# Altium footprint library RSX_Test_Points.PcbLib: 3 footprints
Each footprint in its own frame and in the unit in brackets; x right, y up, seen from the top. Pads: shape width x height; smd on the part's side, far side on the other; paste and mask are expansions set on the pad; w line width, h text height; cw(c..) or ccw(c..) is an arc to the next point about the centre after c.
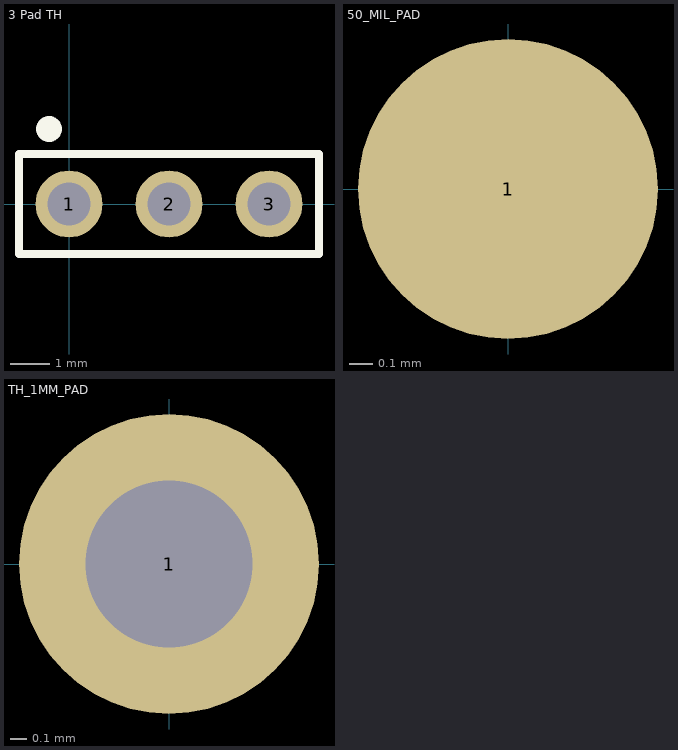
[diagram p0: the footprints below, top view; thin cyan lines are the x and y axes]

## 3 Pad TH [mm]
pads (3):
  round 1.7 hole 1.1: 1(0,0) 2(2.54,0) 3(5.08,0)
Top Overlay:
  circle w0.4: c-0.508,1.905 r0.127
  lines w0.2: -1.27,-1.27 6.35,-1.27 6.35,1.27 -1.27,1.27 -1.27,-1.27
3D body "61300311121_Download_STP_61300311121_rev1.stp": height 8.55, standoff -2.99, extent -1.27,-1.27 6.35,1.27

## 50_MIL_PAD [mm]
pads (1):
  round 1.27 smd: 1(0,0)

## TH_1MM_PAD [mm]
pads (1):
  round 1.8 hole 1: 1(0,0)